# Altium footprint library Crystal.PcbLib: 17 footprints (part 2 of 2)
Each footprint in its own frame and in the unit in brackets; x right, y up, seen from the top. Pads: shape width x height; smd on the part's side, far side on the other; paste and mask are expansions set on the pad; w line width, h text height; cw(c..) or ccw(c..) is an arc to the next point about the centre after c.
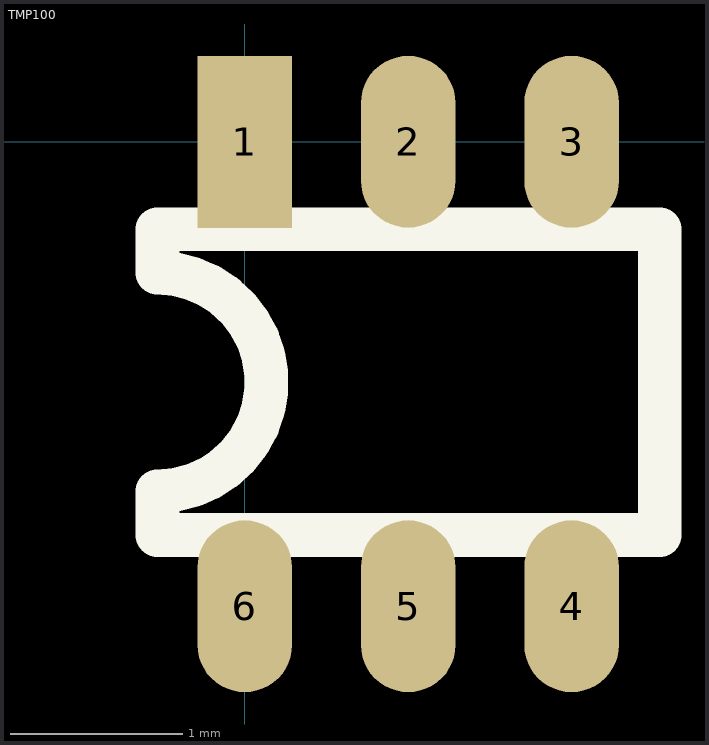
[diagram p1: the footprint, top view; thin cyan lines are the x and y axes]

## TMP100 [mm]
pads (6):
  rect 0.55x1 smd: 1(0,0)
  oval 0.55x1 smd: 2(0.95,0) 3(1.9,0) 4(1.9,-2.7) 5(0.95,-2.7) 6(0,-2.7)
Top Overlay:
  lines w0.127: -0.508,-0.508 2.413,-0.508
  lines w0.254: -0.508,-2.286 2.413,-2.286 2.413,-0.508 -0.508,-0.508 -0.508,-0.762 cw(c-0.508,-1.397) -0.508,-2.032 -0.508,-2.286